# EAGLE library part MAX764CSA+ (library Labops_Lib_AH)
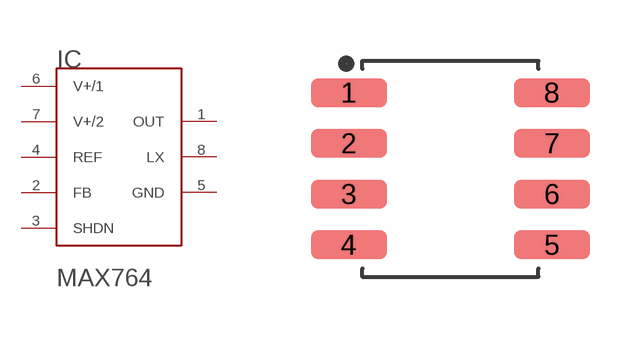
[diagram p74: symbol with the pads of SOIC8; footprint SOIC8]

Designator prefix IC

## MAX764CSA+ (DESCRIPTION: Switching Regulator, Inverting, -5V/Adj SOIC8, Vin 3-16.5V; MFN: MAX764CSA+; MFR: Max IC; OUR_STOCK: 30; PART_VALUE: Buck/Boost IC; PRICE-1: 4.0; SUPPLIER-1: Mouser)  [SOIC8]
1  OUT
2  FB
3  SHDN
4  REF
5  GND
6  V+/1
7  V+/2
8  LX

## Footprint SOIC8 (pad centres in mm)
smd 1.9 x 0.72: 1 -2.54,1.905; 2 -2.54,0.635; 3 -2.54,-0.635; 4 -2.54,-1.905; 5 2.54,-1.905; 6 2.54,-0.635; 7 2.54,0.635; 8 2.54,1.905